# EAGLE library part CD74HCT03 (library texas-instruments)
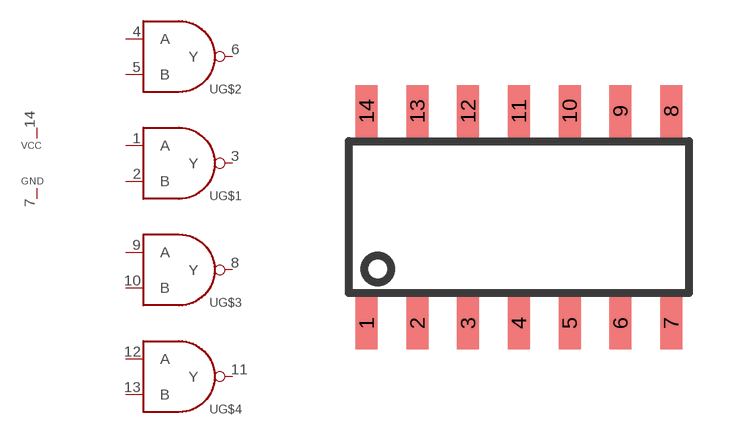
[diagram p28: symbol with the pads of SOIC14_D; footprint SOIC14_D]

Designator prefix U; gates G$1=NAND G$2=NAND G$3=NAND G$4=NAND G$5=PWR/GND

## CD74HCT03 (DIGIKEY: 296-9245-1-ND)  [SOIC14_D]
1  G$1:A
2  G$1:B
3  G$1:Y
4  G$2:A
5  G$2:B
6  G$2:Y
7  G$5:G
8  G$3:Y
9  G$3:A
10  G$3:B
11  G$4:Y
12  G$4:A
13  G$4:B
14  G$5:V  pwr

## Footprint SOIC14_D (pad centres in mm)
PLASTIC SMALL-OUTLINE PACKAGE SO 14 JEDEC MS-012, D Type Source: www.ti.com/.. slvs087l.pdf
smd 0.55 x 1.3: 1 -3.81,-2.65; 2 -2.54,-2.65; 3 -1.27,-2.65; 4 0,-2.65; 5 1.27,-2.65; 6 2.54,-2.65; 7 3.81,-2.65; 8 3.81,2.65; 9 2.54,2.65; 10 1.27,2.65; 11 0,2.65; 12 -1.27,2.65; 13 -2.54,2.65; 14 -3.81,2.65